# EAGLE library part UBLOX_MAX_M8Q (library misc)
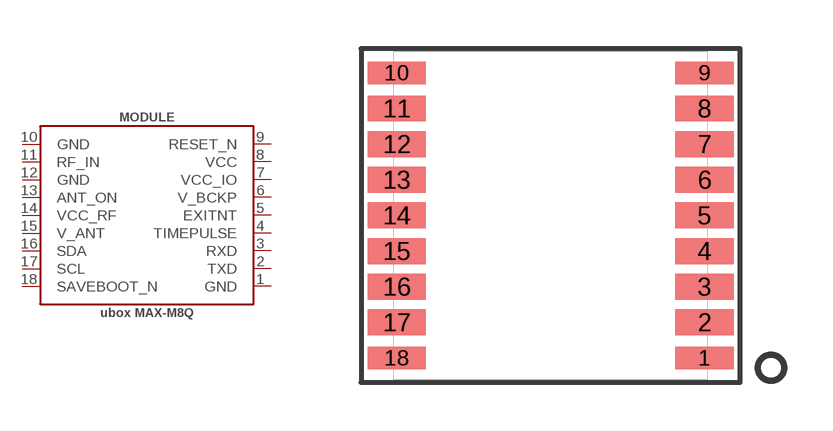
[diagram p78: symbol with the pads of UBLOX_M8; footprint UBLOX_M8]

Designator prefix MODULE

## UBLOX_MAX_M8Q (MANF: ublox; MANF#: MAX-M8Q)  [UBLOX_M8]
1  GND
2  TXD
3  RXD
4  TIMEPULSE
5  EXITNT
6  V_BCKP
7  VCC_IO
8  VCC
9  RESET_N
10  GND
11  RF_IN
12  GND
13  ANT_ON
14  VCC_RF
15  V_ANT
16  SDA
17  SCL
18  SAVEBOOT_N

## Footprint UBLOX_M8 (pad centres in mm)
smd 1.8 x 0.7: 1 4.75,-4.4; 9 4.75,4.4; 10 -4.75,4.4; 18 -4.75,-4.4
smd 1.8 x 0.8: 2 4.75,-3.3; 3 4.75,-2.2; 4 4.75,-1.1; 5 4.75,0; 6 4.75,1.1; 7 4.75,2.2; 8 4.75,3.3; 11 -4.75,3.3; 12 -4.75,2.2; 13 -4.75,1.1; 14 -4.75,0; 15 -4.75,-1.1; 16 -4.75,-2.2; 17 -4.75,-3.3